# EAGLE library part 613064243121 (library Wuerth_Elektronik_eiCan_Pin_&_Socked_Headers_v1.3)
WR-PHD Angled Dual Socket Header, 64 Pins
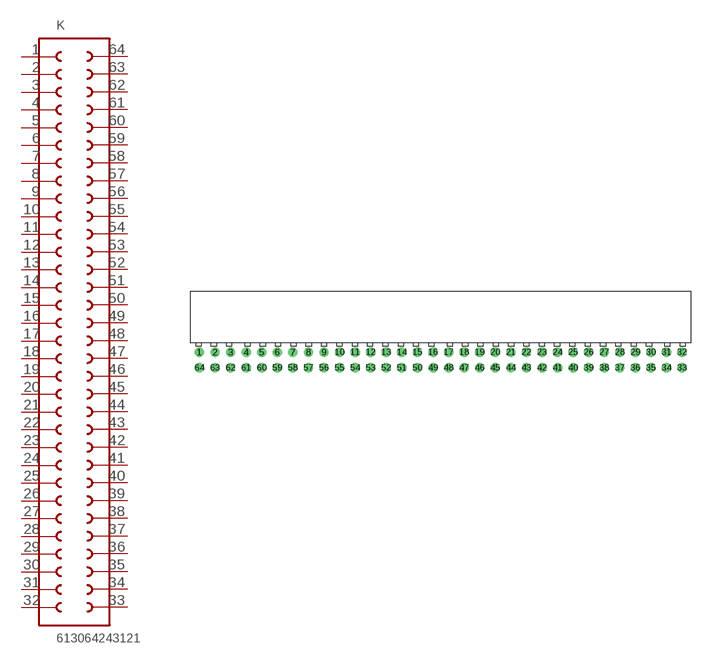
[diagram p184: symbol with the pads of 613064243121; footprint 613064243121]

Designator prefix K

## 613064243121  [613064243121]
1  1  pas
2  2  pas
3  3  pas
4  4  pas
5  5  pas
6  6  pas
7  7  pas
8  8  pas
9  9  pas
10  10  pas
11  11  pas
12  12  pas
13  13  pas
14  14  pas
15  15  pas
16  16  pas
17  17  pas
18  18  pas
19  19  pas
20  20  pas
21  21  pas
22  22  pas
23  23  pas
24  24  pas
25  25  pas
26  26  pas
27  27  pas
28  28  pas
29  29  pas
30  30  pas
31  31  pas
32  32  pas
33  33  pas
34  34  pas
35  35  pas
36  36  pas
37  37  pas
38  38  pas
39  39  pas
40  40  pas
41  41  pas
42  42  pas
43  43  pas
44  44  pas
45  45  pas
46  46  pas
47  47  pas
48  48  pas
49  49  pas
50  50  pas
51  51  pas
52  52  pas
53  53  pas
54  54  pas
55  55  pas
56  56  pas
57  57  pas
58  58  pas
59  59  pas
60  60  pas
61  61  pas
62  62  pas
63  63  pas
64  64  pas

## Footprint 613064243121 (pad centres in mm)
WR-PHD Angled Dual Socket Header, 64 Pins
drill 1.02 round: 1 -53.34,0; 2 -50.8,0; 3 -48.26,0; 4 -45.72,0; 5 -43.18,0; 6 -40.64,0; 7 -38.1,0; 8 -35.56,0; 9 -33.02,0; 10 -30.48,0; 11 -27.94,0; 12 -25.4,0; 13 -22.86,0; 14 -20.32,0; 15 -17.78,0; 16 -15.24,0; 17 -12.7,0; 18 -10.16,0; 19 -7.62,0; 20 -5.08,0; 21 -2.54,0; 22 0,0; 23 2.54,0; 24 5.08,0; 25 7.62,0; 26 10.16,0; 27 12.7,0; 28 15.24,0; 29 17.78,0; 30 20.32,0; 31 22.86,0; 32 25.4,0; 33 25.4,-2.54; 34 22.86,-2.54; 35 20.32,-2.54; 36 17.78,-2.54; 37 15.24,-2.54; 38 12.7,-2.54; 39 10.16,-2.54; 40 7.62,-2.54; 41 5.08,-2.54; 42 2.54,-2.54; 43 0,-2.54; 44 -2.54,-2.54; 45 -5.08,-2.54; 46 -7.62,-2.54; 47 -10.16,-2.54; 48 -12.7,-2.54; 49 -15.24,-2.54; 50 -17.78,-2.54; 51 -20.32,-2.54; 52 -22.86,-2.54; 53 -25.4,-2.54; 54 -27.94,-2.54; 55 -30.48,-2.54; 56 -33.02,-2.54; 57 -35.56,-2.54; 58 -38.1,-2.54; 59 -40.64,-2.54; 60 -43.18,-2.54; 61 -45.72,-2.54; 62 -48.26,-2.54; 63 -50.8,-2.54; 64 -53.34,-2.54